# Altium footprint library 20PIN FLATPACK.PcbLib: 1 footprints
Each footprint in its own frame and in the unit in brackets; x right, y up, seen from the top. Pads: shape width x height; smd on the part's side, far side on the other; paste and mask are expansions set on the pad; w line width, h text height; cw(c..) or ccw(c..) is an arc to the next point about the centre after c.
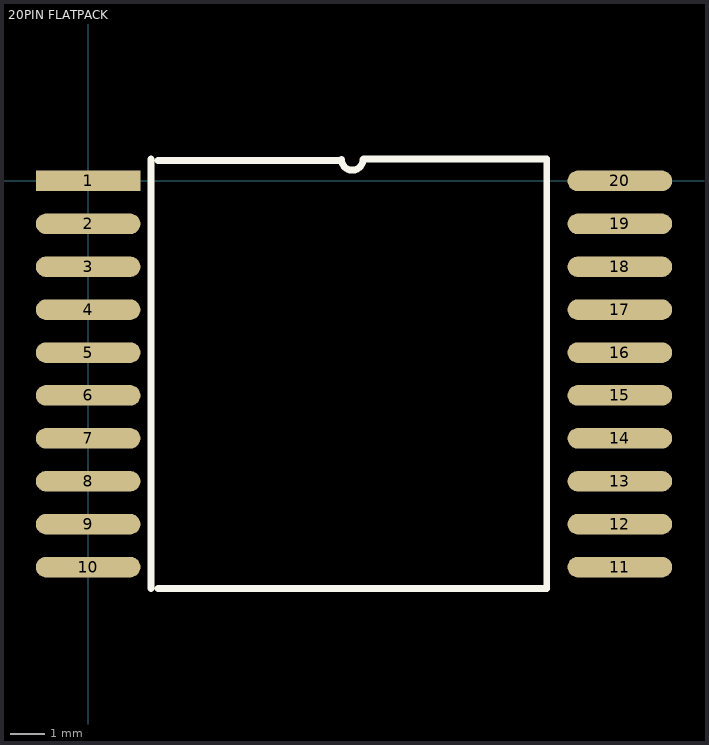
[diagram p0: the footprint, top view; thin cyan lines are the x and y axes]

## 20PIN FLATPACK [mm]
pads (20):
  rect 3.048x0.6 smd: 1(0,0)
  oval 3.048x0.6 smd: 2(0,-1.25) 3(0,-2.5) 4(0,-3.75) 5(0,-5) 6(0,-6.25) 7(0,-7.5) 8(0,-8.75) 9(0,-10) 10(0,-11.25) 11(15.492,-11.25) 12(15.492,-10) 13(15.492,-8.75) 14(15.492,-7.5) 15(15.492,-6.25) 16(15.492,-5) 17(15.492,-3.75) 18(15.492,-2.5) 19(15.492,-1.25) 20(15.492,0)
Top Overlay:
  lines w0.2: 1.831,-11.875 1.831,0.635 ; 2.031,-11.875 13.361,-11.875 13.361,0.635 8.018,0.635 8.008,0.625 cw(c7.696,0.625) 7.384,0.625 7.358,0.6 2.031,0.6
3D body: height 3.02, standoff 0, extent 1.47,-11.938 13.916,0.635